# Altium integrated library Altium_WCAP-CSGP_rev19b.IntLib: 939 symbols (part 5 of 16)
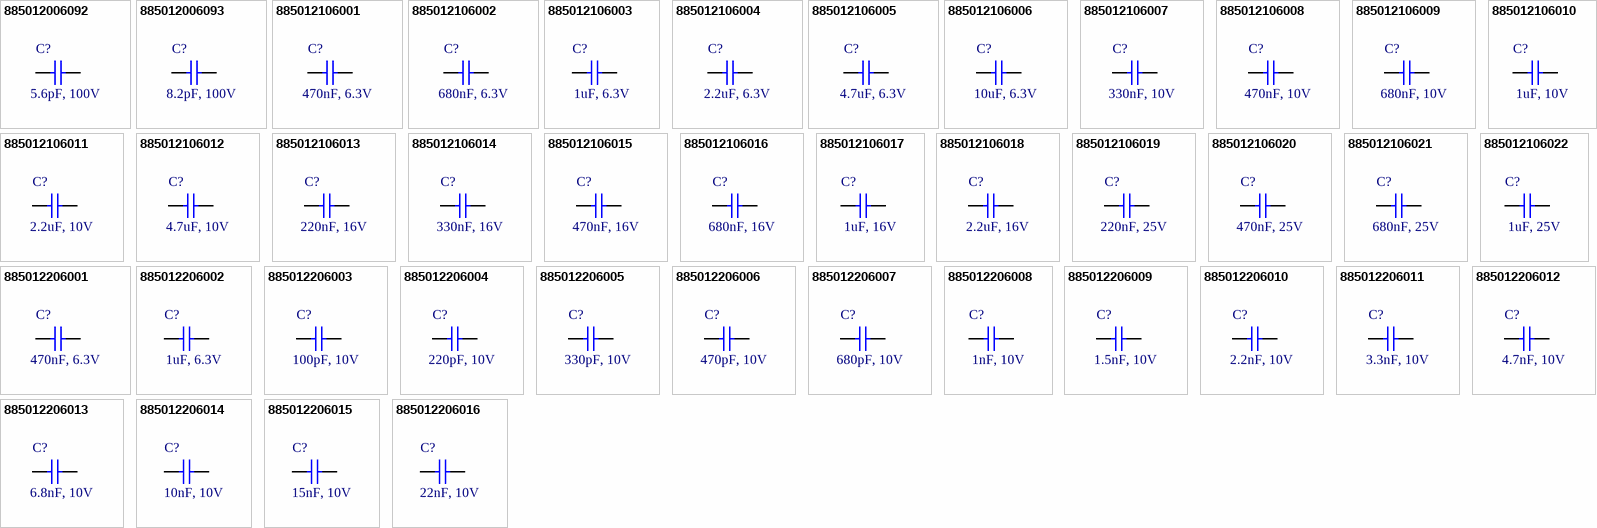
[diagram p31: symbols 885012006092 to 885012206016]

## 885012106006
designator C?, comment 10uF, 6.3V
WCAP-CSGP General Purpose Ceramic Capacitors, size 0603, 10uF, +/-20%, 6.3VDC; Part Number: 885012106006; Isolation Resistance: >=0.01GOhm; Ceramic Type: X5R; Technical Reference: X5R0603106M6R3DFCT10000; ComponentLink1Description: Manufacturer; ComponentLink1URL: http://www.we-online.de; ComponentLink2Description: Datasheet; ComponentLink2URL: https://katalog.we-online.com/pbs/datasheet/885012106006.pdf; Operating Temperature: -55 to +85degC; Packaging: Tape and Reel; Publisher: Wurth Elektronik; Rated Voltage: 6.3VDC; Published Date: August 2019; Capacitance Tolerance: +/-20%; Dissipation Factor: =<10%; Height: 0.8mm +0.15/-0.05mm; Mounting Technology: SMT; Size: 0603; Capacitance: 10uF
footprint WCAP-CSGP_0603_Wave
footprint WCAP-CSGP_0603_Reflow
pins: 1, 2

## 885012106007
designator C?, comment 330nF, 10V
WCAP-CSGP General Purpose Ceramic Capacitors, size 0603, 330nF, +/-20%, 10VDC; Part Number: 885012106007; Isolation Resistance: >=1.5GOhm; Ceramic Type: X5R; Technical Reference: X5R0603334M010DFCT10000; ComponentLink1Description: Manufacturer; ComponentLink1URL: http://www.we-online.de; ComponentLink2Description: Datasheet; ComponentLink2URL: https://katalog.we-online.com/pbs/datasheet/885012106007.pdf; Operating Temperature: -55 to +85degC; Packaging: Tape and Reel; Publisher: Wurth Elektronik; Rated Voltage: 10VDC; Published Date: August 2019; Capacitance Tolerance: +/-20%; Dissipation Factor: =<10%; Height: 0.8mm +0.15/-0.10mm; Mounting Technology: SMT; Size: 0603; Capacitance: 330nF
footprint WCAP-CSGP_0603_Wave
footprint WCAP-CSGP_0603_Reflow
pins: 1, 2

## 885012106008
designator C?, comment 470nF, 10V
WCAP-CSGP General Purpose Ceramic Capacitors, size 0603, 470nF, +/-20%, 10VDC; Part Number: 885012106008; Isolation Resistance: >=0.2GOhm; Ceramic Type: X5R; Technical Reference: X5R0603474M010DFCT10000; ComponentLink1Description: Manufacturer; ComponentLink1URL: http://www.we-online.de; ComponentLink2Description: Datasheet; ComponentLink2URL: https://katalog.we-online.com/pbs/datasheet/885012106008.pdf; Operating Temperature: -55 to +85degC; Packaging: Tape and Reel; Publisher: Wurth Elektronik; Rated Voltage: 10VDC; Published Date: August 2019; Capacitance Tolerance: +/-20%; Dissipation Factor: =<10%; Height: 0.8mm +0.15/-0.10mm; Mounting Technology: SMT; Size: 0603; Capacitance: 470nF
footprint WCAP-CSGP_0603_Wave
footprint WCAP-CSGP_0603_Reflow
pins: 1, 2

## 885012106009
designator C?, comment 680nF, 10V
WCAP-CSGP General Purpose Ceramic Capacitors, size 0603, 680nF, +/-20%, 10VDC; Part Number: 885012106009; Isolation Resistance: >=0.2GOhm; Ceramic Type: X5R; Technical Reference: X5R0603684M010DFCT10000; ComponentLink1Description: Manufacturer; ComponentLink1URL: http://www.we-online.de; ComponentLink2Description: Datasheet; ComponentLink2URL: https://katalog.we-online.com/pbs/datasheet/885012106009.pdf; Operating Temperature: -55 to +85degC; Packaging: Tape and Reel; Publisher: Wurth Elektronik; Rated Voltage: 10VDC; Published Date: August 2019; Capacitance Tolerance: +/-20%; Dissipation Factor: =<10%; Height: 0.8mm +0.15/-0.10mm; Mounting Technology: SMT; Size: 0603; Capacitance: 680nF
footprint WCAP-CSGP_0603_Wave
footprint WCAP-CSGP_0603_Reflow
pins: 1, 2

## 885012106010
designator C?, comment 1uF, 10V
WCAP-CSGP General Purpose Ceramic Capacitors, size 0603, 1uF, +/-20%, 10VDC; Part Number: 885012106010; Isolation Resistance: >=0.1GOhm; Ceramic Type: X5R; Technical Reference: X5R0603105M010DFCT10000; ComponentLink1Description: Manufacturer; ComponentLink1URL: http://www.we-online.de; ComponentLink2Description: Datasheet; ComponentLink2URL: https://katalog.we-online.com/pbs/datasheet/885012106010.pdf; Operating Temperature: -55 to +85degC; Packaging: Tape and Reel; Publisher: Wurth Elektronik; Rated Voltage: 10VDC; Published Date: August 2019; Capacitance Tolerance: +/-20%; Dissipation Factor: =<10%; Height: 0.8mm +0.15/-0.10mm; Mounting Technology: SMT; Size: 0603; Capacitance: 1uF
footprint WCAP-CSGP_0603_Wave
footprint WCAP-CSGP_0603_Reflow
pins: 1, 2

## 885012106011
designator C?, comment 2.2uF, 10V
WCAP-CSGP General Purpose Ceramic Capacitors, size 0603, 2.2uF, +/-20%, 10VDC; Part Number: 885012106011; Isolation Resistance: >=0.05GOhm; Ceramic Type: X5R; Technical Reference: X5R0603225M010DFCT10000; ComponentLink1Description: Manufacturer; ComponentLink1URL: http://www.we-online.de; ComponentLink2Description: Datasheet; ComponentLink2URL: https://katalog.we-online.com/pbs/datasheet/885012106011.pdf; Operating Temperature: -55 to +85degC; Packaging: Tape and Reel; Publisher: Wurth Elektronik; Rated Voltage: 10VDC; Published Date: August 2019; Capacitance Tolerance: +/-20%; Dissipation Factor: =<10%; Height: 0.8mm +0.15/-0.10mm; Mounting Technology: SMT; Size: 0603; Capacitance: 2.2uF
footprint WCAP-CSGP_0603_Wave
footprint WCAP-CSGP_0603_Reflow (Ceramic Capacitors, body 1.6x0.8mm)
pins: 1, 2

## 885012106012
designator C?, comment 4.7uF, 10V
WCAP-CSGP General Purpose Ceramic Capacitors, size 0603, 4.7uF, +/-20%, 10VDC; Part Number: 885012106012; Isolation Resistance: >=0.02GOhm; Ceramic Type: X5R; Technical Reference: X5R0603475M010DFCT10000; ComponentLink1Description: Manufacturer; ComponentLink1URL: http://www.we-online.de; ComponentLink2Description: Datasheet; ComponentLink2URL: https://katalog.we-online.com/pbs/datasheet/885012106012.pdf; Operating Temperature: -55 to +85degC; Packaging: Tape and Reel; Publisher: Wurth Elektronik; Rated Voltage: 10VDC; Published Date: August 2019; Capacitance Tolerance: +/-20%; Dissipation Factor: =<10%; Height: 0.8mm +0.15/-0.10mm; Mounting Technology: SMT; Size: 0603; Capacitance: 4.7uF
footprint WCAP-CSGP_0603_Wave
footprint WCAP-CSGP_0603_Reflow
pins: 1, 2

## 885012106013
designator C?, comment 220nF, 16V
WCAP-CSGP General Purpose Ceramic Capacitors, size 0603, 220nF, +/-20%, 16VDC; Part Number: 885012106013; Isolation Resistance: >=2.3GOhm; Ceramic Type: X5R; Technical Reference: X5R0603224M016DFCT10000; ComponentLink1Description: Manufacturer; ComponentLink1URL: http://www.we-online.de; ComponentLink2Description: Datasheet; ComponentLink2URL: https://katalog.we-online.com/pbs/datasheet/885012106013.pdf; Operating Temperature: -55 to +85degC; Packaging: Tape and Reel; Publisher: Wurth Elektronik; Rated Voltage: 16VDC; Published Date: August 2019; Capacitance Tolerance: +/-20%; Dissipation Factor: =<5%; Height: 0.8mm +0.15/-0.10mm; Mounting Technology: SMT; Size: 0603; Capacitance: 220nF
footprint WCAP-CSGP_0603_Wave
footprint WCAP-CSGP_0603_Reflow
pins: 1, 2

## 885012106014
designator C?, comment 330nF, 16V
WCAP-CSGP General Purpose Ceramic Capacitors, size 0603, 330nF, +/-20%, 16VDC; Part Number: 885012106014; Isolation Resistance: >=1.5GOhm; Ceramic Type: X5R; Technical Reference: X5R0603334M016DFCT10000; ComponentLink1Description: Manufacturer; ComponentLink1URL: http://www.we-online.de; ComponentLink2Description: Datasheet; ComponentLink2URL: https://katalog.we-online.com/pbs/datasheet/885012106014.pdf; Operating Temperature: -55 to +85degC; Packaging: Tape and Reel; Publisher: Wurth Elektronik; Rated Voltage: 16VDC; Published Date: August 2019; Capacitance Tolerance: +/-20%; Dissipation Factor: =<5%; Height: 0.8mm +0.15/-0.10mm; Mounting Technology: SMT; Size: 0603; Capacitance: 330nF
footprint WCAP-CSGP_0603_Wave
footprint WCAP-CSGP_0603_Reflow
pins: 1, 2

## 885012106015
designator C?, comment 470nF, 16V
WCAP-CSGP General Purpose Ceramic Capacitors, size 0603, 470nF, +/-20%, 16VDC; Part Number: 885012106015; Isolation Resistance: >=1.1GOhm; Ceramic Type: X5R; Technical Reference: X5R0603474M016DFCT10000; ComponentLink1Description: Manufacturer; ComponentLink1URL: http://www.we-online.de; ComponentLink2Description: Datasheet; ComponentLink2URL: https://katalog.we-online.com/pbs/datasheet/885012106015.pdf; Operating Temperature: -55 to +85degC; Packaging: Tape and Reel; Publisher: Wurth Elektronik; Rated Voltage: 16VDC; Published Date: August 2019; Capacitance Tolerance: +/-20%; Dissipation Factor: =<5%; Height: 0.8mm +0.15/-0.10mm; Mounting Technology: SMT; Size: 0603; Capacitance: 470nF
footprint WCAP-CSGP_0603_Wave
footprint WCAP-CSGP_0603_Reflow
pins: 1, 2

## 885012106016
designator C?, comment 680nF, 16V
WCAP-CSGP General Purpose Ceramic Capacitors, size 0603, 680nF, +/-20%, 16VDC; Part Number: 885012106016; Isolation Resistance: >=0.7GOhm; Ceramic Type: X5R; Technical Reference: X5R0603684M016DFCT10000; ComponentLink1Description: Manufacturer; ComponentLink1URL: http://www.we-online.de; ComponentLink2Description: Datasheet; ComponentLink2URL: https://katalog.we-online.com/pbs/datasheet/885012106016.pdf; Operating Temperature: -55 to +85degC; Packaging: Tape and Reel; Publisher: Wurth Elektronik; Rated Voltage: 16VDC; Published Date: August 2019; Capacitance Tolerance: +/-20%; Dissipation Factor: =<10%; Height: 0.8mm +0.15/-0.10mm; Mounting Technology: SMT; Size: 0603; Capacitance: 680nF
footprint WCAP-CSGP_0603_Wave
footprint WCAP-CSGP_0603_Reflow
pins: 1, 2

## 885012106017
designator C?, comment 1uF, 16V
WCAP-CSGP General Purpose Ceramic Capacitors, size 0603, 1uF, +/-20%, 16VDC; Part Number: 885012106017; Isolation Resistance: >=0.1GOhm; Ceramic Type: X5R; Technical Reference: X5R0603105M016DFCT10000; ComponentLink1Description: Manufacturer; ComponentLink1URL: http://www.we-online.de; ComponentLink2Description: Datasheet; ComponentLink2URL: https://katalog.we-online.com/pbs/datasheet/885012106017.pdf; Operating Temperature: -55 to +85degC; Packaging: Tape and Reel; Publisher: Wurth Elektronik; Rated Voltage: 16VDC; Published Date: August 2019; Capacitance Tolerance: +/-20%; Dissipation Factor: =<10%; Height: 0.8mm +0.15/-0.10mm; Mounting Technology: SMT; Size: 0603; Capacitance: 1uF
footprint WCAP-CSGP_0603_Wave
footprint WCAP-CSGP_0603_Reflow
pins: 1, 2

## 885012106018
designator C?, comment 2.2uF, 16V
WCAP-CSGP General Purpose Ceramic Capacitors, size 0603, 2.2uF, +/-20%, 16VDC; Part Number: 885012106018; Isolation Resistance: >=0.05GOhm; Ceramic Type: X5R; Technical Reference: X5R0603225M016DFCT10000; ComponentLink1Description: Manufacturer; ComponentLink1URL: http://www.we-online.de; ComponentLink2Description: Datasheet; ComponentLink2URL: https://katalog.we-online.com/pbs/datasheet/885012106018.pdf; Operating Temperature: -55 to +85degC; Packaging: Tape and Reel; Publisher: Wurth Elektronik; Rated Voltage: 16VDC; Published Date: August 2019; Capacitance Tolerance: +/-20%; Dissipation Factor: =<10%; Height: 0.8mm +/-0.20mm; Mounting Technology: SMT; Size: 0603; Capacitance: 2.2uF
footprint WCAP-CSGP_0603_Wave
footprint WCAP-CSGP_0603_Reflow
pins: 1, 2

## 885012106019
designator C?, comment 220nF, 25V
WCAP-CSGP General Purpose Ceramic Capacitors, size 0603, 220nF, +/-20%, 25VDC; Part Number: 885012106019; Isolation Resistance: >=2.3GOhm; Ceramic Type: X5R; Technical Reference: X5R0603224M025DFCT10000; ComponentLink1Description: Manufacturer; ComponentLink1URL: http://www.we-online.de; ComponentLink2Description: Datasheet; ComponentLink2URL: https://katalog.we-online.com/pbs/datasheet/885012106019.pdf; Operating Temperature: -55 to +85degC; Packaging: Tape and Reel; Publisher: Wurth Elektronik; Rated Voltage: 25VDC; Published Date: August 2019; Capacitance Tolerance: +/-20%; Dissipation Factor: =<3.5%; Height: 0.8mm +0.15/-0.10mm; Mounting Technology: SMT; Size: 0603; Capacitance: 220nF
footprint WCAP-CSGP_0603_Wave
footprint WCAP-CSGP_0603_Reflow
pins: 1, 2

## 885012106020
designator C?, comment 470nF, 25V
WCAP-CSGP General Purpose Ceramic Capacitors, size 0603, 470nF, +/-20%, 25VDC; Part Number: 885012106020; Isolation Resistance: >=1.1GOhm; Ceramic Type: X5R; Technical Reference: X5R0603474M025DFCT10000; ComponentLink1Description: Manufacturer; ComponentLink1URL: http://www.we-online.de; ComponentLink2Description: Datasheet; ComponentLink2URL: https://katalog.we-online.com/pbs/datasheet/885012106020.pdf; Operating Temperature: -55 to +85degC; Packaging: Tape and Reel; Publisher: Wurth Elektronik; Rated Voltage: 25VDC; Published Date: August 2019; Capacitance Tolerance: +/-20%; Dissipation Factor: =<10%; Height: 0.8mm +0.15/-0.10mm; Mounting Technology: SMT; Size: 0603; Capacitance: 470nF
footprint WCAP-CSGP_0603_Wave
footprint WCAP-CSGP_0603_Reflow
pins: 1, 2

## 885012106021
designator C?, comment 680nF, 25V
WCAP-CSGP General Purpose Ceramic Capacitors, size 0603, 680nF, +/-20%, 25VDC; Part Number: 885012106021; Isolation Resistance: >=0.7GOhm; Ceramic Type: X5R; Technical Reference: X5R0603684M025DFCT10000; ComponentLink1Description: Manufacturer; ComponentLink1URL: http://www.we-online.de; ComponentLink2Description: Datasheet; ComponentLink2URL: https://katalog.we-online.com/pbs/datasheet/885012106021.pdf; Operating Temperature: -55 to +85degC; Packaging: Tape and Reel; Publisher: Wurth Elektronik; Rated Voltage: 25VDC; Published Date: August 2019; Capacitance Tolerance: +/-20%; Dissipation Factor: =<10%; Height: 0.8mm +0.15/-0.10mm; Mounting Technology: SMT; Size: 0603; Capacitance: 680nF
footprint WCAP-CSGP_0603_Wave
footprint WCAP-CSGP_0603_Reflow
pins: 1, 2

## 885012106022
designator C?, comment 1uF, 25V
WCAP-CSGP General Purpose Ceramic Capacitors, size 0603, 1uF, +/-20%, 25VDC; Part Number: 885012106022; Isolation Resistance: >=0.5GOhm; Ceramic Type: X5R; Technical Reference: X5R0603105M025DFCT10000; ComponentLink1Description: Manufacturer; ComponentLink1URL: http://www.we-online.de; ComponentLink2Description: Datasheet; ComponentLink2URL: https://katalog.we-online.com/pbs/datasheet/885012106022.pdf; Operating Temperature: -55 to +85degC; Packaging: Tape and Reel; Publisher: Wurth Elektronik; Rated Voltage: 25VDC; Published Date: August 2019; Capacitance Tolerance: +/-20%; Dissipation Factor: =<10%; Height: 0.8mm +0.15/-0.10mm; Mounting Technology: SMT; Size: 0603; Capacitance: 1uF
footprint WCAP-CSGP_0603_Wave
footprint WCAP-CSGP_0603_Reflow
pins: 1, 2

## 885012206001
designator C?, comment 470nF, 6.3V
WCAP-CSGP General Purpose Ceramic Capacitors, size 0603, 470nF, +/-10%, 6.3VDC; Part Number: 885012206001; Isolation Resistance: >=0.2GOhm; Ceramic Type: X7R; Technical Reference: X7R0603474K6R3DFCT10000; ComponentLink1Description: Manufacturer; ComponentLink1URL: http://www.we-online.de; ComponentLink2Description: Datasheet; ComponentLink2URL: https://katalog.we-online.com/pbs/datasheet/885012206001.pdf; Operating Temperature: -55 to +125degC; Packaging: Tape and Reel; Publisher: Wurth Elektronik; Rated Voltage: 6.3VDC; Published Date: August 2019; Capacitance Tolerance: +/-10%; Dissipation Factor: =<10%; Height: 0.8mm +0.15/-0.10mm; Mounting Technology: SMT; Size: 0603; Capacitance: 470nF
footprint WCAP-CSGP_0603_Wave
footprint WCAP-CSGP_0603_Reflow
pins: 1, 2

## 885012206002
designator C?, comment 1uF, 6.3V
WCAP-CSGP General Purpose Ceramic Capacitors, size 0603, 1uF, +/-10%, 6.3VDC; Part Number: 885012206002; Isolation Resistance: >=0.1GOhm; Ceramic Type: X7R; Technical Reference: X7R0603105K6R3DFCT10000; ComponentLink1Description: Manufacturer; ComponentLink1URL: http://www.we-online.de; ComponentLink2Description: Datasheet; ComponentLink2URL: https://katalog.we-online.com/pbs/datasheet/885012206002.pdf; Operating Temperature: -55 to +125degC; Packaging: Tape and Reel; Publisher: Wurth Elektronik; Rated Voltage: 6.3VDC; Published Date: August 2019; Capacitance Tolerance: +/-10%; Dissipation Factor: =<10%; Height: 0.8mm +0.15/-0.10mm; Mounting Technology: SMT; Size: 0603; Capacitance: 1uF
footprint WCAP-CSGP_0603_Wave
footprint WCAP-CSGP_0603_Reflow
pins: 1, 2

## 885012206003
designator C?, comment 100pF, 10V
WCAP-CSGP General Purpose Ceramic Capacitors, size 0603, 100pF, +/-10%, 10VDC; Part Number: 885012206003; Isolation Resistance: >=10GOhm; Ceramic Type: X7R; Technical Reference: X7R0603101K010DFCT10000; ComponentLink1Description: Manufacturer; ComponentLink1URL: http://www.we-online.de; ComponentLink2Description: Datasheet; ComponentLink2URL: https://katalog.we-online.com/pbs/datasheet/885012206003.pdf; Operating Temperature: -55 to +125degC; Packaging: Tape and Reel; Publisher: Wurth Elektronik; Rated Voltage: 10VDC; Published Date: August 2019; Capacitance Tolerance: +/-10%; Dissipation Factor: =<5%; Height: 0.8mm +/-0.07mm; Mounting Technology: SMT; Size: 0603; Capacitance: 100pF
footprint WCAP-CSGP_0603_Wave
footprint WCAP-CSGP_0603_Reflow
pins: 1, 2

## 885012206004
designator C?, comment 220pF, 10V
WCAP-CSGP General Purpose Ceramic Capacitors, size 0603, 220pF, +/-10%, 10VDC; Part Number: 885012206004; Isolation Resistance: >=10GOhm; Ceramic Type: X7R; Technical Reference: X7R0603221K010DFCT10000; ComponentLink1Description: Manufacturer; ComponentLink1URL: http://www.we-online.de; ComponentLink2Description: Datasheet; ComponentLink2URL: https://katalog.we-online.com/pbs/datasheet/885012206004.pdf; Operating Temperature: -55 to +125degC; Packaging: Tape and Reel; Publisher: Wurth Elektronik; Rated Voltage: 10VDC; Published Date: August 2019; Capacitance Tolerance: +/-10%; Dissipation Factor: =<5%; Height: 0.8mm +/-0.07mm; Mounting Technology: SMT; Size: 0603; Capacitance: 220pF
footprint WCAP-CSGP_0603_Wave
footprint WCAP-CSGP_0603_Reflow
pins: 1, 2

## 885012206005
designator C?, comment 330pF, 10V
WCAP-CSGP General Purpose Ceramic Capacitors, size 0603, 330pF, +/-10%, 10VDC; Part Number: 885012206005; Isolation Resistance: >=10GOhm; Ceramic Type: X7R; Technical Reference: X7R0603331K010DFCT10000; ComponentLink1Description: Manufacturer; ComponentLink1URL: http://www.we-online.de; ComponentLink2Description: Datasheet; ComponentLink2URL: https://katalog.we-online.com/pbs/datasheet/885012206005.pdf; Operating Temperature: -55 to +125degC; Packaging: Tape and Reel; Publisher: Wurth Elektronik; Rated Voltage: 10VDC; Published Date: August 2019; Capacitance Tolerance: +/-10%; Dissipation Factor: =<5%; Height: 0.8mm +/-0.07mm; Mounting Technology: SMT; Size: 0603; Capacitance: 330pF
footprint WCAP-CSGP_0603_Wave
footprint WCAP-CSGP_0603_Reflow
pins: 1, 2

## 885012206006
designator C?, comment 470pF, 10V
WCAP-CSGP General Purpose Ceramic Capacitors, size 0603, 470pF, +/-10%, 10VDC; Part Number: 885012206006; Isolation Resistance: >=10GOhm; Ceramic Type: X7R; Technical Reference: X7R0603471K010DFCT10000; ComponentLink1Description: Manufacturer; ComponentLink1URL: http://www.we-online.de; ComponentLink2Description: Datasheet; ComponentLink2URL: https://katalog.we-online.com/pbs/datasheet/885012206006.pdf; Operating Temperature: -55 to +125degC; Packaging: Tape and Reel; Publisher: Wurth Elektronik; Rated Voltage: 10VDC; Published Date: August 2019; Capacitance Tolerance: +/-10%; Dissipation Factor: =<5%; Height: 0.8mm +/-0.07mm; Mounting Technology: SMT; Size: 0603; Capacitance: 470pF
footprint WCAP-CSGP_0603_Wave
footprint WCAP-CSGP_0603_Reflow
pins: 1, 2

## 885012206007
designator C?, comment 680pF, 10V
WCAP-CSGP General Purpose Ceramic Capacitors, size 0603, 680pF, +/-10%, 10VDC; Part Number: 885012206007; Isolation Resistance: >=10GOhm; Ceramic Type: X7R; Technical Reference: X7R0603681K010DFCT10000; ComponentLink1Description: Manufacturer; ComponentLink1URL: http://www.we-online.de; ComponentLink2Description: Datasheet; ComponentLink2URL: https://katalog.we-online.com/pbs/datasheet/885012206007.pdf; Operating Temperature: -55 to +125degC; Packaging: Tape and Reel; Publisher: Wurth Elektronik; Rated Voltage: 10VDC; Published Date: August 2019; Capacitance Tolerance: +/-10%; Dissipation Factor: =<5%; Height: 0.8mm +/-0.07mm; Mounting Technology: SMT; Size: 0603; Capacitance: 680pF
footprint WCAP-CSGP_0603_Wave
footprint WCAP-CSGP_0603_Reflow
pins: 1, 2

## 885012206008
designator C?, comment 1nF, 10V
WCAP-CSGP General Purpose Ceramic Capacitors, size 0603, 1nF, +/-10%, 10VDC; Part Number: 885012206008; Isolation Resistance: >=10GOhm; Ceramic Type: X7R; Technical Reference: X7R0603102K010DFCT10000; ComponentLink1Description: Manufacturer; ComponentLink1URL: http://www.we-online.de; ComponentLink2Description: Datasheet; ComponentLink2URL: https://katalog.we-online.com/pbs/datasheet/885012206008.pdf; Operating Temperature: -55 to +125degC; Packaging: Tape and Reel; Publisher: Wurth Elektronik; Rated Voltage: 10VDC; Published Date: August 2019; Capacitance Tolerance: +/-10%; Dissipation Factor: =<5%; Height: 0.8mm +/-0.07mm; Mounting Technology: SMT; Size: 0603; Capacitance: 1nF
footprint WCAP-CSGP_0603_Wave
footprint WCAP-CSGP_0603_Reflow
pins: 1, 2

## 885012206009
designator C?, comment 1.5nF, 10V
WCAP-CSGP General Purpose Ceramic Capacitors, size 0603, 1.5nF, +/-10%, 10VDC; Part Number: 885012206009; Isolation Resistance: >=10GOhm; Ceramic Type: X7R; Technical Reference: X7R0603152K010DFCT10000; ComponentLink1Description: Manufacturer; ComponentLink1URL: http://www.we-online.de; ComponentLink2Description: Datasheet; ComponentLink2URL: https://katalog.we-online.com/pbs/datasheet/885012206009.pdf; Operating Temperature: -55 to +125degC; Packaging: Tape and Reel; Publisher: Wurth Elektronik; Rated Voltage: 10VDC; Published Date: August 2019; Capacitance Tolerance: +/-10%; Dissipation Factor: =<5%; Height: 0.8mm +/-0.07mm; Mounting Technology: SMT; Size: 0603; Capacitance: 1.5nF
footprint WCAP-CSGP_0603_Wave
footprint WCAP-CSGP_0603_Reflow
pins: 1, 2

## 885012206010
designator C?, comment 2.2nF, 10V
WCAP-CSGP General Purpose Ceramic Capacitors, size 0603, 2.2nF, +/-10%, 10VDC; Part Number: 885012206010; Isolation Resistance: >=10GOhm; Ceramic Type: X7R; Technical Reference: X7R0603222K010DFCT10000; ComponentLink1Description: Manufacturer; ComponentLink1URL: http://www.we-online.de; ComponentLink2Description: Datasheet; ComponentLink2URL: https://katalog.we-online.com/pbs/datasheet/885012206010.pdf; Operating Temperature: -55 to +125degC; Packaging: Tape and Reel; Publisher: Wurth Elektronik; Rated Voltage: 10VDC; Published Date: August 2019; Capacitance Tolerance: +/-10%; Dissipation Factor: =<5%; Height: 0.8mm +/-0.07mm; Mounting Technology: SMT; Size: 0603; Capacitance: 2.2nF
footprint WCAP-CSGP_0603_Wave
footprint WCAP-CSGP_0603_Reflow
pins: 1, 2

## 885012206011
designator C?, comment 3.3nF, 10V
WCAP-CSGP General Purpose Ceramic Capacitors, size 0603, 3.3nF, +/-10%, 10VDC; Part Number: 885012206011; Isolation Resistance: >=10GOhm; Ceramic Type: X7R; Technical Reference: X7R0603332K010DFCT10000; ComponentLink1Description: Manufacturer; ComponentLink1URL: http://www.we-online.de; ComponentLink2Description: Datasheet; ComponentLink2URL: https://katalog.we-online.com/pbs/datasheet/885012206011.pdf; Operating Temperature: -55 to +125degC; Packaging: Tape and Reel; Publisher: Wurth Elektronik; Rated Voltage: 10VDC; Published Date: August 2019; Capacitance Tolerance: +/-10%; Dissipation Factor: =<5%; Height: 0.8mm +/-0.07mm; Mounting Technology: SMT; Size: 0603; Capacitance: 3.3nF
footprint WCAP-CSGP_0603_Wave
footprint WCAP-CSGP_0603_Reflow
pins: 1, 2

## 885012206012
designator C?, comment 4.7nF, 10V
WCAP-CSGP General Purpose Ceramic Capacitors, size 0603, 4.7nF, +/-10%, 10VDC; Part Number: 885012206012; Isolation Resistance: >=10GOhm; Ceramic Type: X7R; Technical Reference: X7R0603472K010DFCT10000; ComponentLink1Description: Manufacturer; ComponentLink1URL: http://www.we-online.de; ComponentLink2Description: Datasheet; ComponentLink2URL: https://katalog.we-online.com/pbs/datasheet/885012206012.pdf; Operating Temperature: -55 to +125degC; Packaging: Tape and Reel; Publisher: Wurth Elektronik; Rated Voltage: 10VDC; Published Date: August 2019; Capacitance Tolerance: +/-10%; Dissipation Factor: =<5%; Height: 0.8mm +/-0.07mm; Mounting Technology: SMT; Size: 0603; Capacitance: 4.7nF
footprint WCAP-CSGP_0603_Wave
footprint WCAP-CSGP_0603_Reflow
pins: 1, 2

## 885012206013
designator C?, comment 6.8nF, 10V
WCAP-CSGP General Purpose Ceramic Capacitors, size 0603, 6.8nF, +/-10%, 10VDC; Part Number: 885012206013; Isolation Resistance: >=10GOhm; Ceramic Type: X7R; Technical Reference: X7R0603682K010DFCT10000; ComponentLink1Description: Manufacturer; ComponentLink1URL: http://www.we-online.de; ComponentLink2Description: Datasheet; ComponentLink2URL: https://katalog.we-online.com/pbs/datasheet/885012206013.pdf; Operating Temperature: -55 to +125degC; Packaging: Tape and Reel; Publisher: Wurth Elektronik; Rated Voltage: 10VDC; Published Date: August 2019; Capacitance Tolerance: +/-10%; Dissipation Factor: =<5%; Height: 0.8mm +/-0.07mm; Mounting Technology: SMT; Size: 0603; Capacitance: 6.8nF
footprint WCAP-CSGP_0603_Wave
footprint WCAP-CSGP_0603_Reflow
pins: 1, 2

## 885012206014
designator C?, comment 10nF, 10V
WCAP-CSGP General Purpose Ceramic Capacitors, size 0603, 10nF, +/-10%, 10VDC; Part Number: 885012206014; Isolation Resistance: >=10GOhm; Ceramic Type: X7R; Technical Reference: X7R0603103K010DFCT10000; ComponentLink1Description: Manufacturer; ComponentLink1URL: http://www.we-online.de; ComponentLink2Description: Datasheet; ComponentLink2URL: https://katalog.we-online.com/pbs/datasheet/885012206014.pdf; Operating Temperature: -55 to +125degC; Packaging: Tape and Reel; Publisher: Wurth Elektronik; Rated Voltage: 10VDC; Published Date: August 2019; Capacitance Tolerance: +/-10%; Dissipation Factor: =<5%; Height: 0.8mm +/-0.07mm; Mounting Technology: SMT; Size: 0603; Capacitance: 10nF
footprint WCAP-CSGP_0603_Wave
footprint WCAP-CSGP_0603_Reflow
pins: 1, 2

## 885012206015
designator C?, comment 15nF, 10V
WCAP-CSGP General Purpose Ceramic Capacitors, size 0603, 15nF, +/-10%, 10VDC; Part Number: 885012206015; Isolation Resistance: >=10GOhm; Ceramic Type: X7R; Technical Reference: X7R0603153K010DFCT10000; ComponentLink1Description: Manufacturer; ComponentLink1URL: http://www.we-online.de; ComponentLink2Description: Datasheet; ComponentLink2URL: https://katalog.we-online.com/pbs/datasheet/885012206015.pdf; Operating Temperature: -55 to +125degC; Packaging: Tape and Reel; Publisher: Wurth Elektronik; Rated Voltage: 10VDC; Published Date: August 2019; Capacitance Tolerance: +/-10%; Dissipation Factor: =<5%; Height: 0.8mm +/-0.07mm; Mounting Technology: SMT; Size: 0603; Capacitance: 15nF
footprint WCAP-CSGP_0603_Wave
footprint WCAP-CSGP_0603_Reflow
pins: 1, 2

## 885012206016
designator C?, comment 22nF, 10V
WCAP-CSGP General Purpose Ceramic Capacitors, size 0603, 22nF, +/-10%, 10VDC; Part Number: 885012206016; Isolation Resistance: >=10GOhm; Ceramic Type: X7R; Technical Reference: X7R0603223K010DFCT10000; ComponentLink1Description: Manufacturer; ComponentLink1URL: http://www.we-online.de; ComponentLink2Description: Datasheet; ComponentLink2URL: https://katalog.we-online.com/pbs/datasheet/885012206016.pdf; Operating Temperature: -55 to +125degC; Packaging: Tape and Reel; Publisher: Wurth Elektronik; Rated Voltage: 10VDC; Published Date: August 2019; Capacitance Tolerance: +/-10%; Dissipation Factor: =<5%; Height: 0.8mm +/-0.07mm; Mounting Technology: SMT; Size: 0603; Capacitance: 22nF
footprint WCAP-CSGP_0603_Wave
footprint WCAP-CSGP_0603_Reflow
pins: 1, 2

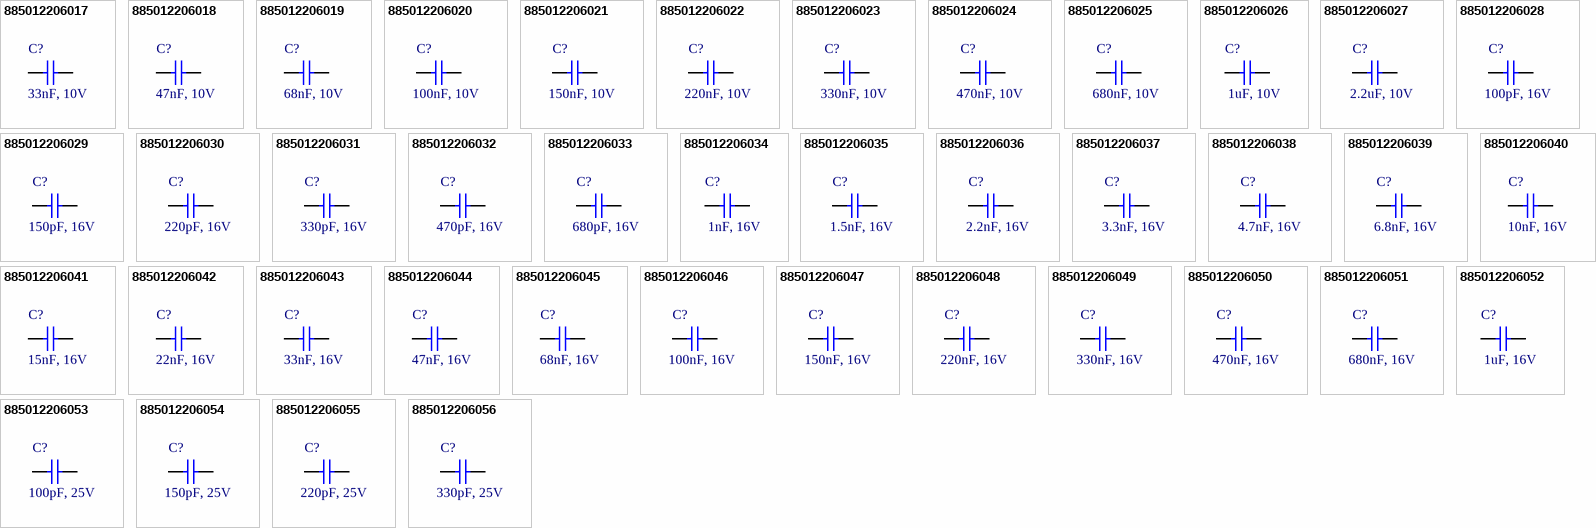
[diagram p8: symbols 885012206017 to 885012206056]

## 885012206017
designator C?, comment 33nF, 10V
WCAP-CSGP General Purpose Ceramic Capacitors, size 0603, 33nF, +/-10%, 10VDC; Part Number: 885012206017; Isolation Resistance: >=10GOhm; Ceramic Type: X7R; Technical Reference: X7R0603333K010DFCT10000; ComponentLink1Description: Manufacturer; ComponentLink1URL: http://www.we-online.de; ComponentLink2Description: Datasheet; ComponentLink2URL: https://katalog.we-online.com/pbs/datasheet/885012206017.pdf; Operating Temperature: -55 to +125degC; Packaging: Tape and Reel; Publisher: Wurth Elektronik; Rated Voltage: 10VDC; Published Date: August 2019; Capacitance Tolerance: +/-10%; Dissipation Factor: =<5%; Height: 0.8mm +/-0.07mm; Mounting Technology: SMT; Size: 0603; Capacitance: 33nF
footprint WCAP-CSGP_0603_Wave
footprint WCAP-CSGP_0603_Reflow
pins: 1, 2

## 885012206018
designator C?, comment 47nF, 10V
WCAP-CSGP General Purpose Ceramic Capacitors, size 0603, 47nF, +/-10%, 10VDC; Part Number: 885012206018; Isolation Resistance: >=10GOhm; Ceramic Type: X7R; Technical Reference: X7R0603473K010DFCT10000; ComponentLink1Description: Manufacturer; ComponentLink1URL: http://www.we-online.de; ComponentLink2Description: Datasheet; ComponentLink2URL: https://katalog.we-online.com/pbs/datasheet/885012206018.pdf; Operating Temperature: -55 to +125degC; Packaging: Tape and Reel; Publisher: Wurth Elektronik; Rated Voltage: 10VDC; Published Date: August 2019; Capacitance Tolerance: +/-10%; Dissipation Factor: =<5%; Height: 0.8mm +/-0.07mm; Mounting Technology: SMT; Size: 0603; Capacitance: 47nF
footprint WCAP-CSGP_0603_Wave
footprint WCAP-CSGP_0603_Reflow
pins: 1, 2

## 885012206019
designator C?, comment 68nF, 10V
WCAP-CSGP General Purpose Ceramic Capacitors, size 0603, 68nF, +/-10%, 10VDC; Part Number: 885012206019; Isolation Resistance: >=7.4GOhm; Ceramic Type: X7R; Technical Reference: X7R0603683K010DFCT10000; ComponentLink1Description: Manufacturer; ComponentLink1URL: http://www.we-online.de; ComponentLink2Description: Datasheet; ComponentLink2URL: https://katalog.we-online.com/pbs/datasheet/885012206019.pdf; Operating Temperature: -55 to +125degC; Packaging: Tape and Reel; Publisher: Wurth Elektronik; Rated Voltage: 10VDC; Published Date: August 2019; Capacitance Tolerance: +/-10%; Dissipation Factor: =<5%; Height: 0.8mm +/-0.07mm; Mounting Technology: SMT; Size: 0603; Capacitance: 68nF
footprint WCAP-CSGP_0603_Wave
footprint WCAP-CSGP_0603_Reflow
pins: 1, 2

## 885012206020
designator C?, comment 100nF, 10V
WCAP-CSGP General Purpose Ceramic Capacitors, size 0603, 100nF, +/-10%, 10VDC; Part Number: 885012206020; Isolation Resistance: >=5GOhm; Ceramic Type: X7R; Technical Reference: X7R0603104K010DFCT10000; ComponentLink1Description: Manufacturer; ComponentLink1URL: http://www.we-online.de; ComponentLink2Description: Datasheet; ComponentLink2URL: https://katalog.we-online.com/pbs/datasheet/885012206020.pdf; Operating Temperature: -55 to +125degC; Packaging: Tape and Reel; Publisher: Wurth Elektronik; Rated Voltage: 10VDC; Published Date: August 2019; Capacitance Tolerance: +/-10%; Dissipation Factor: =<5%; Height: 0.8mm +/-0.07mm; Mounting Technology: SMT; Size: 0603; Capacitance: 100nF
footprint WCAP-CSGP_0603_Wave
footprint WCAP-CSGP_0603_Reflow
pins: 1, 2

## 885012206021
designator C?, comment 150nF, 10V
WCAP-CSGP General Purpose Ceramic Capacitors, size 0603, 150nF, +/-10%, 10VDC; Part Number: 885012206021; Isolation Resistance: >=3.3GOhm; Ceramic Type: X7R; Technical Reference: X7R0603154K010DFCT10000; ComponentLink1Description: Manufacturer; ComponentLink1URL: http://www.we-online.de; ComponentLink2Description: Datasheet; ComponentLink2URL: https://katalog.we-online.com/pbs/datasheet/885012206021.pdf; Operating Temperature: -55 to +125degC; Packaging: Tape and Reel; Publisher: Wurth Elektronik; Rated Voltage: 10VDC; Published Date: August 2019; Capacitance Tolerance: +/-10%; Dissipation Factor: =<5%; Height: 0.8mm +/-0.07mm; Mounting Technology: SMT; Size: 0603; Capacitance: 150nF
footprint WCAP-CSGP_0603_Wave
footprint WCAP-CSGP_0603_Reflow
pins: 1, 2

## 885012206022
designator C?, comment 220nF, 10V
WCAP-CSGP General Purpose Ceramic Capacitors, size 0603, 220nF, +/-10%, 10VDC; Part Number: 885012206022; Isolation Resistance: >=2.3GOhm; Ceramic Type: X7R; Technical Reference: X7R0603224K010DFCT10000; ComponentLink1Description: Manufacturer; ComponentLink1URL: http://www.we-online.de; ComponentLink2Description: Datasheet; ComponentLink2URL: https://katalog.we-online.com/pbs/datasheet/885012206022.pdf; Operating Temperature: -55 to +125degC; Packaging: Tape and Reel; Publisher: Wurth Elektronik; Rated Voltage: 10VDC; Published Date: August 2019; Capacitance Tolerance: +/-10%; Dissipation Factor: =<5%; Height: 0.8mm +/-0.07mm; Mounting Technology: SMT; Size: 0603; Capacitance: 220nF
footprint WCAP-CSGP_0603_Wave
footprint WCAP-CSGP_0603_Reflow
pins: 1, 2

## 885012206023
designator C?, comment 330nF, 10V
WCAP-CSGP General Purpose Ceramic Capacitors, size 0603, 330nF, +/-10%, 10VDC; Part Number: 885012206023; Isolation Resistance: >=1.5GOhm; Ceramic Type: X7R; Technical Reference: X7R0603334K010DFCT10000; ComponentLink1Description: Manufacturer; ComponentLink1URL: http://www.we-online.de; ComponentLink2Description: Datasheet; ComponentLink2URL: https://katalog.we-online.com/pbs/datasheet/885012206023.pdf; Operating Temperature: -55 to +125degC; Packaging: Tape and Reel; Publisher: Wurth Elektronik; Rated Voltage: 10VDC; Published Date: August 2019; Capacitance Tolerance: +/-10%; Dissipation Factor: =<10%; Height: 0.8mm +0.15/-0.10mm; Mounting Technology: SMT; Size: 0603; Capacitance: 330nF
footprint WCAP-CSGP_0603_Wave
footprint WCAP-CSGP_0603_Reflow
pins: 1, 2

## 885012206024
designator C?, comment 470nF, 10V
WCAP-CSGP General Purpose Ceramic Capacitors, size 0603, 470nF, +/-10%, 10VDC; Part Number: 885012206024; Isolation Resistance: >=0.2GOhm; Ceramic Type: X7R; Technical Reference: X7R0603474K010DFCT10000; ComponentLink1Description: Manufacturer; ComponentLink1URL: http://www.we-online.de; ComponentLink2Description: Datasheet; ComponentLink2URL: https://katalog.we-online.com/pbs/datasheet/885012206024.pdf; Operating Temperature: -55 to +125degC; Packaging: Tape and Reel; Publisher: Wurth Elektronik; Rated Voltage: 10VDC; Published Date: August 2019; Capacitance Tolerance: +/-10%; Dissipation Factor: =<10%; Height: 0.8mm +0.15/-0.10mm; Mounting Technology: SMT; Size: 0603; Capacitance: 470nF
footprint WCAP-CSGP_0603_Wave
footprint WCAP-CSGP_0603_Reflow
pins: 1, 2

## 885012206025
designator C?, comment 680nF, 10V
WCAP-CSGP General Purpose Ceramic Capacitors, size 0603, 680nF, +/-10%, 10VDC; Part Number: 885012206025; Isolation Resistance: >=0.2GOhm; Ceramic Type: X7R; Technical Reference: X7R0603684K010DFCT10000; ComponentLink1Description: Manufacturer; ComponentLink1URL: http://www.we-online.de; ComponentLink2Description: Datasheet; ComponentLink2URL: https://katalog.we-online.com/pbs/datasheet/885012206025.pdf; Operating Temperature: -55 to +125degC; Packaging: Tape and Reel; Publisher: Wurth Elektronik; Rated Voltage: 10VDC; Published Date: August 2019; Capacitance Tolerance: +/-10%; Dissipation Factor: =<10%; Height: 0.8mm +0.15/-0.10mm; Mounting Technology: SMT; Size: 0603; Capacitance: 680nF
footprint WCAP-CSGP_0603_Wave
footprint WCAP-CSGP_0603_Reflow
pins: 1, 2

## 885012206026
designator C?, comment 1uF, 10V
WCAP-CSGP General Purpose Ceramic Capacitors, size 0603, 1uF, +/-10%, 10VDC; Part Number: 885012206026; Isolation Resistance: >=0.1GOhm; Ceramic Type: X7R; Technical Reference: X7R0603105K010DFCT10000; ComponentLink1Description: Manufacturer; ComponentLink1URL: http://www.we-online.de; ComponentLink2Description: Datasheet; ComponentLink2URL: https://katalog.we-online.com/pbs/datasheet/885012206026.pdf; Operating Temperature: -55 to +125degC; Packaging: Tape and Reel; Publisher: Wurth Elektronik; Rated Voltage: 10VDC; Published Date: August 2019; Capacitance Tolerance: +/-10%; Dissipation Factor: =<10%; Height: 0.8mm +0.15/-0.10mm; Mounting Technology: SMT; Size: 0603; Capacitance: 1uF
footprint WCAP-CSGP_0603_Wave
footprint WCAP-CSGP_0603_Reflow
pins: 1, 2

## 885012206027
designator C?, comment 2.2uF, 10V
WCAP-CSGP General Purpose Ceramic Capacitors, size 0603, 2.2uF, +/-10%, 10VDC; Part Number: 885012206027; Isolation Resistance: >=0.02GOhm; Ceramic Type: X7R; Technical Reference: X7R0603225K010DFCT10000; ComponentLink1Description: Manufacturer; ComponentLink1URL: http://www.we-online.de; ComponentLink2Description: Datasheet; ComponentLink2URL: https://katalog.we-online.com/pbs/datasheet/885012206027.pdf; Operating Temperature: -55 to +125degC; Packaging: Tape and Reel; Publisher: Wurth Elektronik; Rated Voltage: 10VDC; Published Date: August 2019; Capacitance Tolerance: +/-10%; Dissipation Factor: =<10%; Height: 0.8mm +0.15/-0.10mm; Mounting Technology: SMT; Size: 0603; Capacitance: 2.2uF
footprint WCAP-CSGP_0603_Wave
footprint WCAP-CSGP_0603_Reflow
pins: 1, 2

## 885012206028
designator C?, comment 100pF, 16V
WCAP-CSGP General Purpose Ceramic Capacitors, size 0603, 100pF, +/-10%, 16VDC; Part Number: 885012206028; Isolation Resistance: >=10GOhm; Ceramic Type: X7R; Technical Reference: X7R0603101K016DFCT10000; ComponentLink1Description: Manufacturer; ComponentLink1URL: http://www.we-online.de; ComponentLink2Description: Datasheet; ComponentLink2URL: https://katalog.we-online.com/pbs/datasheet/885012206028.pdf; Operating Temperature: -55 to +125degC; Packaging: Tape and Reel; Publisher: Wurth Elektronik; Rated Voltage: 16VDC; Published Date: August 2019; Capacitance Tolerance: +/-10%; Dissipation Factor: =<3.5%; Height: 0.8mm +/-0.07mm; Mounting Technology: SMT; Size: 0603; Capacitance: 100pF
footprint WCAP-CSGP_0603_Wave
footprint WCAP-CSGP_0603_Reflow
pins: 1, 2

## 885012206029
designator C?, comment 150pF, 16V
WCAP-CSGP General Purpose Ceramic Capacitors, size 0603, 150pF, +/-10%, 16VDC; Part Number: 885012206029; Isolation Resistance: >=10GOhm; Ceramic Type: X7R; Technical Reference: X7R0603151K016DFCT10000; ComponentLink1Description: Manufacturer; ComponentLink1URL: http://www.we-online.de; ComponentLink2Description: Datasheet; ComponentLink2URL: https://katalog.we-online.com/pbs/datasheet/885012206029.pdf; Operating Temperature: -55 to +125degC; Packaging: Tape and Reel; Publisher: Wurth Elektronik; Rated Voltage: 16VDC; Published Date: August 2019; Capacitance Tolerance: +/-10%; Dissipation Factor: =<3.5%; Height: 0.8mm +/-0.07mm; Mounting Technology: SMT; Size: 0603; Capacitance: 150pF
footprint WCAP-CSGP_0603_Wave
footprint WCAP-CSGP_0603_Reflow
pins: 1, 2

## 885012206030
designator C?, comment 220pF, 16V
WCAP-CSGP General Purpose Ceramic Capacitors, size 0603, 220pF, +/-10%, 16VDC; Part Number: 885012206030; Isolation Resistance: >=10GOhm; Ceramic Type: X7R; Technical Reference: X7R0603221K016DFCT10000; ComponentLink1Description: Manufacturer; ComponentLink1URL: http://www.we-online.de; ComponentLink2Description: Datasheet; ComponentLink2URL: https://katalog.we-online.com/pbs/datasheet/885012206030.pdf; Operating Temperature: -55 to +125degC; Packaging: Tape and Reel; Publisher: Wurth Elektronik; Rated Voltage: 16VDC; Published Date: August 2019; Capacitance Tolerance: +/-10%; Dissipation Factor: =<3.5%; Height: 0.8mm +/-0.07mm; Mounting Technology: SMT; Size: 0603; Capacitance: 220pF
footprint WCAP-CSGP_0603_Wave
footprint WCAP-CSGP_0603_Reflow
pins: 1, 2

## 885012206031
designator C?, comment 330pF, 16V
WCAP-CSGP General Purpose Ceramic Capacitors, size 0603, 330pF, +/-10%, 16VDC; Part Number: 885012206031; Isolation Resistance: >=10GOhm; Ceramic Type: X7R; Technical Reference: X7R0603331K016DFCT10000; ComponentLink1Description: Manufacturer; ComponentLink1URL: http://www.we-online.de; ComponentLink2Description: Datasheet; ComponentLink2URL: https://katalog.we-online.com/pbs/datasheet/885012206031.pdf; Operating Temperature: -55 to +125degC; Packaging: Tape and Reel; Publisher: Wurth Elektronik; Rated Voltage: 16VDC; Published Date: August 2019; Capacitance Tolerance: +/-10%; Dissipation Factor: =<3.5%; Height: 0.8mm +/-0.07mm; Mounting Technology: SMT; Size: 0603; Capacitance: 330pF
footprint WCAP-CSGP_0603_Wave
footprint WCAP-CSGP_0603_Reflow
pins: 1, 2

## 885012206032
designator C?, comment 470pF, 16V
WCAP-CSGP General Purpose Ceramic Capacitors, size 0603, 470pF, +/-10%, 16VDC; Part Number: 885012206032; Isolation Resistance: >=10GOhm; Ceramic Type: X7R; Technical Reference: X7R0603471K016DFCT10000; ComponentLink1Description: Manufacturer; ComponentLink1URL: http://www.we-online.de; ComponentLink2Description: Datasheet; ComponentLink2URL: https://katalog.we-online.com/pbs/datasheet/885012206032.pdf; Operating Temperature: -55 to +125degC; Packaging: Tape and Reel; Publisher: Wurth Elektronik; Rated Voltage: 16VDC; Published Date: August 2019; Capacitance Tolerance: +/-10%; Dissipation Factor: =<3.5%; Height: 0.8mm +/-0.07mm; Mounting Technology: SMT; Size: 0603; Capacitance: 470pF
footprint WCAP-CSGP_0603_Wave
footprint WCAP-CSGP_0603_Reflow
pins: 1, 2

## 885012206033
designator C?, comment 680pF, 16V
WCAP-CSGP General Purpose Ceramic Capacitors, size 0603, 680pF, +/-10%, 16VDC; Part Number: 885012206033; Isolation Resistance: >=10GOhm; Ceramic Type: X7R; Technical Reference: X7R0603681K016DFCT10000; ComponentLink1Description: Manufacturer; ComponentLink1URL: http://www.we-online.de; ComponentLink2Description: Datasheet; ComponentLink2URL: https://katalog.we-online.com/pbs/datasheet/885012206033.pdf; Operating Temperature: -55 to +125degC; Packaging: Tape and Reel; Publisher: Wurth Elektronik; Rated Voltage: 16VDC; Published Date: August 2019; Capacitance Tolerance: +/-10%; Dissipation Factor: =<3.5%; Height: 0.8mm +/-0.07mm; Mounting Technology: SMT; Size: 0603; Capacitance: 680pF
footprint WCAP-CSGP_0603_Wave
footprint WCAP-CSGP_0603_Reflow
pins: 1, 2

## 885012206034
designator C?, comment 1nF, 16V
WCAP-CSGP General Purpose Ceramic Capacitors, size 0603, 1nF, +/-10%, 16VDC; Part Number: 885012206034; Isolation Resistance: >=10GOhm; Ceramic Type: X7R; Technical Reference: X7R0603102K016DFCT10000; ComponentLink1Description: Manufacturer; ComponentLink1URL: http://www.we-online.de; ComponentLink2Description: Datasheet; ComponentLink2URL: https://katalog.we-online.com/pbs/datasheet/885012206034.pdf; Operating Temperature: -55 to +125degC; Packaging: Tape and Reel; Publisher: Wurth Elektronik; Rated Voltage: 16VDC; Published Date: August 2019; Capacitance Tolerance: +/-10%; Dissipation Factor: =<3.5%; Height: 0.8mm +/-0.07mm; Mounting Technology: SMT; Size: 0603; Capacitance: 1nF
footprint WCAP-CSGP_0603_Wave
footprint WCAP-CSGP_0603_Reflow
pins: 1, 2

## 885012206035
designator C?, comment 1.5nF, 16V
WCAP-CSGP General Purpose Ceramic Capacitors, size 0603, 1.5nF, +/-10%, 16VDC; Part Number: 885012206035; Isolation Resistance: >=10GOhm; Ceramic Type: X7R; Technical Reference: X7R0603152K016DFCT10000; ComponentLink1Description: Manufacturer; ComponentLink1URL: http://www.we-online.de; ComponentLink2Description: Datasheet; ComponentLink2URL: https://katalog.we-online.com/pbs/datasheet/885012206035.pdf; Operating Temperature: -55 to +125degC; Packaging: Tape and Reel; Publisher: Wurth Elektronik; Rated Voltage: 16VDC; Published Date: August 2019; Capacitance Tolerance: +/-10%; Dissipation Factor: =<3.5%; Height: 0.8mm +/-0.07mm; Mounting Technology: SMT; Size: 0603; Capacitance: 1.5nF
footprint WCAP-CSGP_0603_Wave
footprint WCAP-CSGP_0603_Reflow
pins: 1, 2

## 885012206036
designator C?, comment 2.2nF, 16V
WCAP-CSGP General Purpose Ceramic Capacitors, size 0603, 2.2nF, +/-10%, 16VDC; Part Number: 885012206036; Isolation Resistance: >=10GOhm; Ceramic Type: X7R; Technical Reference: X7R0603222K016DFCT10000; ComponentLink1Description: Manufacturer; ComponentLink1URL: http://www.we-online.de; ComponentLink2Description: Datasheet; ComponentLink2URL: https://katalog.we-online.com/pbs/datasheet/885012206036.pdf; Operating Temperature: -55 to +125degC; Packaging: Tape and Reel; Publisher: Wurth Elektronik; Rated Voltage: 16VDC; Published Date: August 2019; Capacitance Tolerance: +/-10%; Dissipation Factor: =<3.5%; Height: 0.8mm +/-0.07mm; Mounting Technology: SMT; Size: 0603; Capacitance: 2.2nF
footprint WCAP-CSGP_0603_Wave
footprint WCAP-CSGP_0603_Reflow
pins: 1, 2

## 885012206037
designator C?, comment 3.3nF, 16V
WCAP-CSGP General Purpose Ceramic Capacitors, size 0603, 3.3nF, +/-10%, 16VDC; Part Number: 885012206037; Isolation Resistance: >=10GOhm; Ceramic Type: X7R; Technical Reference: X7R0603332K016DFCT10000; ComponentLink1Description: Manufacturer; ComponentLink1URL: http://www.we-online.de; ComponentLink2Description: Datasheet; ComponentLink2URL: https://katalog.we-online.com/pbs/datasheet/885012206037.pdf; Operating Temperature: -55 to +125degC; Packaging: Tape and Reel; Publisher: Wurth Elektronik; Rated Voltage: 16VDC; Published Date: August 2019; Capacitance Tolerance: +/-10%; Dissipation Factor: =<3.5%; Height: 0.8mm +/-0.07mm; Mounting Technology: SMT; Size: 0603; Capacitance: 3.3nF
footprint WCAP-CSGP_0603_Wave
footprint WCAP-CSGP_0603_Reflow
pins: 1, 2

## 885012206038
designator C?, comment 4.7nF, 16V
WCAP-CSGP General Purpose Ceramic Capacitors, size 0603, 4.7nF, +/-10%, 16VDC; Part Number: 885012206038; Isolation Resistance: >=10GOhm; Ceramic Type: X7R; Technical Reference: X7R0603472K016DFCT10000; ComponentLink1Description: Manufacturer; ComponentLink1URL: http://www.we-online.de; ComponentLink2Description: Datasheet; ComponentLink2URL: https://katalog.we-online.com/pbs/datasheet/885012206038.pdf; Operating Temperature: -55 to +125degC; Packaging: Tape and Reel; Publisher: Wurth Elektronik; Rated Voltage: 16VDC; Published Date: August 2019; Capacitance Tolerance: +/-10%; Dissipation Factor: =<3.5%; Height: 0.8mm +/-0.07mm; Mounting Technology: SMT; Size: 0603; Capacitance: 4.7nF
footprint WCAP-CSGP_0603_Wave
footprint WCAP-CSGP_0603_Reflow
pins: 1, 2

## 885012206039
designator C?, comment 6.8nF, 16V
WCAP-CSGP General Purpose Ceramic Capacitors, size 0603, 6.8nF, +/-10%, 16VDC; Part Number: 885012206039; Isolation Resistance: >=10GOhm; Ceramic Type: X7R; Technical Reference: X7R0603682K016DFCT10000; ComponentLink1Description: Manufacturer; ComponentLink1URL: http://www.we-online.de; ComponentLink2Description: Datasheet; ComponentLink2URL: https://katalog.we-online.com/pbs/datasheet/885012206039.pdf; Operating Temperature: -55 to +125degC; Packaging: Tape and Reel; Publisher: Wurth Elektronik; Rated Voltage: 16VDC; Published Date: August 2019; Capacitance Tolerance: +/-10%; Dissipation Factor: =<3.5%; Height: 0.8mm +/-0.07mm; Mounting Technology: SMT; Size: 0603; Capacitance: 6.8nF
footprint WCAP-CSGP_0603_Wave
footprint WCAP-CSGP_0603_Reflow
pins: 1, 2

## 885012206040
designator C?, comment 10nF, 16V
WCAP-CSGP General Purpose Ceramic Capacitors, size 0603, 10nF, +/-10%, 16VDC; Part Number: 885012206040; Isolation Resistance: >=10GOhm; Ceramic Type: X7R; Technical Reference: X7R0603103K016DFCT10000; ComponentLink1Description: Manufacturer; ComponentLink1URL: http://www.we-online.de; ComponentLink2Description: Datasheet; ComponentLink2URL: https://katalog.we-online.com/pbs/datasheet/885012206040.pdf; Operating Temperature: -55 to +125degC; Packaging: Tape and Reel; Publisher: Wurth Elektronik; Rated Voltage: 16VDC; Published Date: August 2019; Capacitance Tolerance: +/-10%; Dissipation Factor: =<3.5%; Height: 0.8mm +/-0.07mm; Mounting Technology: SMT; Size: 0603; Capacitance: 10nF
footprint WCAP-CSGP_0603_Wave
footprint WCAP-CSGP_0603_Reflow
pins: 1, 2

## 885012206041
designator C?, comment 15nF, 16V
WCAP-CSGP General Purpose Ceramic Capacitors, size 0603, 15nF, +/-10%, 16VDC; Part Number: 885012206041; Isolation Resistance: >=10GOhm; Ceramic Type: X7R; Technical Reference: X7R0603153K016DFCT10000; ComponentLink1Description: Manufacturer; ComponentLink1URL: http://www.we-online.de; ComponentLink2Description: Datasheet; ComponentLink2URL: https://katalog.we-online.com/pbs/datasheet/885012206041.pdf; Operating Temperature: -55 to +125degC; Packaging: Tape and Reel; Publisher: Wurth Elektronik; Rated Voltage: 16VDC; Published Date: August 2019; Capacitance Tolerance: +/-10%; Dissipation Factor: =<3.5%; Height: 0.8mm +/-0.07mm; Mounting Technology: SMT; Size: 0603; Capacitance: 15nF
footprint WCAP-CSGP_0603_Wave
footprint WCAP-CSGP_0603_Reflow
pins: 1, 2

## 885012206042
designator C?, comment 22nF, 16V
WCAP-CSGP General Purpose Ceramic Capacitors, size 0603, 22nF, +/-10%, 16VDC; Part Number: 885012206042; Isolation Resistance: >=10GOhm; Ceramic Type: X7R; Technical Reference: X7R0603223K016DFCT10000; ComponentLink1Description: Manufacturer; ComponentLink1URL: http://www.we-online.de; ComponentLink2Description: Datasheet; ComponentLink2URL: https://katalog.we-online.com/pbs/datasheet/885012206042.pdf; Operating Temperature: -55 to +125degC; Packaging: Tape and Reel; Publisher: Wurth Elektronik; Rated Voltage: 16VDC; Published Date: August 2019; Capacitance Tolerance: +/-10%; Dissipation Factor: =<3.5%; Height: 0.8mm +/-0.07mm; Mounting Technology: SMT; Size: 0603; Capacitance: 22nF
footprint WCAP-CSGP_0603_Wave
footprint WCAP-CSGP_0603_Reflow
pins: 1, 2

## 885012206043
designator C?, comment 33nF, 16V
WCAP-CSGP General Purpose Ceramic Capacitors, size 0603, 33nF, +/-10%, 16VDC; Part Number: 885012206043; Isolation Resistance: >=10GOhm; Ceramic Type: X7R; Technical Reference: X7R0603333K016DFCT10000; ComponentLink1Description: Manufacturer; ComponentLink1URL: http://www.we-online.de; ComponentLink2Description: Datasheet; ComponentLink2URL: https://katalog.we-online.com/pbs/datasheet/885012206043.pdf; Operating Temperature: -55 to +125degC; Packaging: Tape and Reel; Publisher: Wurth Elektronik; Rated Voltage: 16VDC; Published Date: August 2019; Capacitance Tolerance: +/-10%; Dissipation Factor: =<3.5%; Height: 0.8mm +/-0.07mm; Mounting Technology: SMT; Size: 0603; Capacitance: 33nF
footprint WCAP-CSGP_0603_Wave
footprint WCAP-CSGP_0603_Reflow
pins: 1, 2

## 885012206044
designator C?, comment 47nF, 16V
WCAP-CSGP General Purpose Ceramic Capacitors, size 0603, 47nF, +/-10%, 16VDC; Part Number: 885012206044; Isolation Resistance: >=10GOhm; Ceramic Type: X7R; Technical Reference: X7R0603473K016DFCT10000; ComponentLink1Description: Manufacturer; ComponentLink1URL: http://www.we-online.de; ComponentLink2Description: Datasheet; ComponentLink2URL: https://katalog.we-online.com/pbs/datasheet/885012206044.pdf; Operating Temperature: -55 to +125degC; Packaging: Tape and Reel; Publisher: Wurth Elektronik; Rated Voltage: 16VDC; Published Date: August 2019; Capacitance Tolerance: +/-10%; Dissipation Factor: =<3.5%; Height: 0.8mm +/-0.07mm; Mounting Technology: SMT; Size: 0603; Capacitance: 47nF
footprint WCAP-CSGP_0603_Wave
footprint WCAP-CSGP_0603_Reflow
pins: 1, 2